# Altium schematic symbol library GOST_Paimin.SchLib: 50 symbols
Pins are listed as number, name and electrical type; pins without a type are passive.

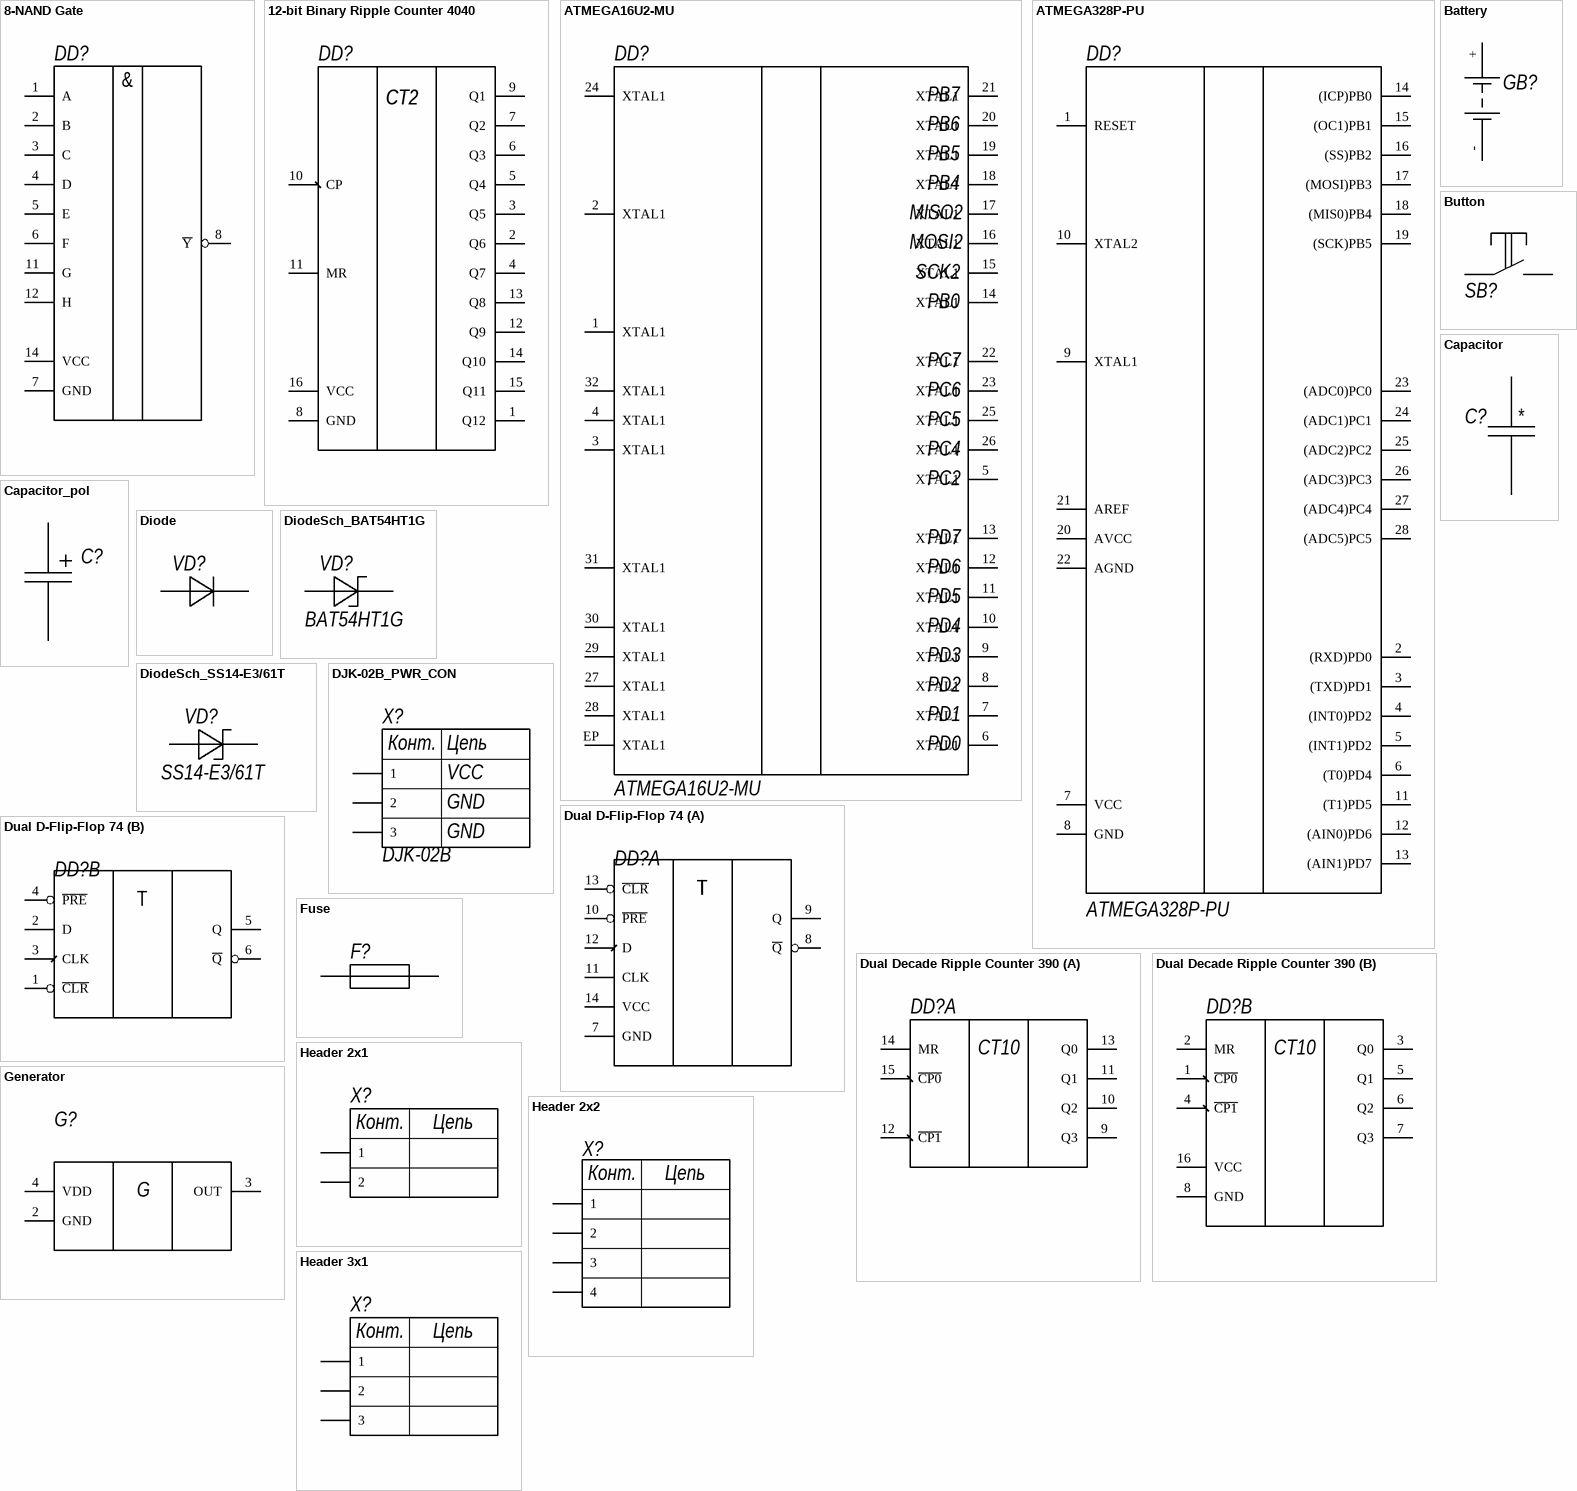
[diagram p0: symbols 8-NAND Gate to Header 3x1]

## 8-NAND Gate
designator DD?
Case: SOIC-14
footprint SOIC-14 (SOIC, 14-Leads, Body 8,65x3,90mm, Pitch 1,27mm, IPC Medium Density)
pins: 1 A, 2 B, 3 C, 4 D, 5 E, 6 F, 7 GND, 8 ~{Y}, 11 G, 12 H, 14 VCC
1 alternate drawing of the same symbol
text: &

## 12-bit Binary Ripple Counter 4040
designator DD?
ValueDescription: Микросхема; ValueType: Счётчик
footprint SOIC-16 (SOIC, 16-Leads, Body 8,65x3,90mm, Pitch 1,27mm, IPC Medium Density)
pins: 1 Q12, 2 Q6, 3 Q5, 4 Q7, 5 Q4, 6 Q3, 7 Q2, 8 GND, 9 Q1, 10 CP, 11 MR, 12 Q9, 13 Q8, 14 Q10, 15 Q11, 16 VCC
text: CT2

## ATMEGA16U2-MU
designator DD?
ValueManufacturer: ATMEGA; ValueType: Микроконтроллер; ValueDescription: Микросхема; ValueManufacturerPartNumber: ATMEGA16U2-MU; Case: QFN32_0.5_5x5mm
footprint QFN32_0.5_5x5mm
pins: 1 XTAL1, 2 XTAL1, 3 XTAL1, 4 XTAL1, 5 XTAL1, 6 XTAL1, 7 XTAL1, 8 XTAL1, 9 XTAL1, 10 XTAL1, 11 XTAL1, 12 XTAL1, 13 XTAL1, 14 XTAL1, 15 XTAL1, 16 XTAL1, 17 XTAL1, 18 XTAL1, 19 XTAL1, 20 XTAL1, 21 XTAL1, 22 XTAL1, 23 XTAL1, 24 XTAL1, 25 XTAL1, 26 XTAL1, 27 XTAL1, 28 XTAL1, 29 XTAL1, 30 XTAL1, 31 XTAL1, 32 XTAL1, EP XTAL1
text: PB7; PB6; PB5; PB4; MISO2; MOSI2; SCK2; PB0; PC7; PC6; PC5; PC4; PC2; PD7; PD6; PD5; PD4; PD3; PD2; PD1; PD0

## ATMEGA328P-PU
designator DD?
ValueManufacturer: ATMEGA; ValueType: Микроконтроллер; ValueDescription: Микросхема; Rule: PcbType=ProtelPcb; ValueManufacturerPartNumber: ATMEGA328P-PU; Case: DIP28
footprint DIP28_2.54
pins: 1 RESET, 2 (RXD)PD0, 3 (TXD)PD1, 4 (INT0)PD2, 5 (INT1)PD2, 6 (T0)PD4, 7 VCC, 8 GND, 9 XTAL1, 10 XTAL2, 11 (T1)PD5, 12 (AIN0)PD6, 13 (AIN1)PD7, 14 (ICP)PB0, 15 (OC1)PB1, 16 (SS)PB2, 17 (MOSI)PB3, 18 (MIS0)PB4, 19 (SCK)PB5, 20 AVCC, 21 AREF, 22 AGND, 23 (ADC0)PC0, 24 (ADC1)PC1, 25 (ADC2)PC2, 26 (ADC3)PC3, 27 (ADC4)PC4, 28 (ADC5)PC5

## Battery
designator GB?
pins: +, -

## Button
designator SB?, comment 2-1437565-7  (value not drawn)
ValueManufacturer: Te Connectivity; ValueType: Кнопка тактовая; ValueManufacturerPartNumber: 2-1437565-7
footprint TACT_Switch (Footprint not found)
footprint MP12
pins: 1, 2

## Capacitor
designator C?
ValueType: Конденсатор; Case: *; Power: *; Temp: *; Tolerance: *; URL: *; Value: *; ValueDescription: *; ValueManufacturer: *; ValueManufacturerPartNumber: *; Dielectric: *; Voltage: *; ESR: *
footprint 0603_CAP
footprint 1206_CAP
footprint 1210_CAP
pins: 1, 2
1 alternate drawing of the same symbol

## Capacitor_pol
designator C?
ValueType: Полярный конденсатор
footprint CAP_ELECTR_0607
footprint CAP_CASE_A (Танталовый, тип А)
footprint CAP_CASE_B (Molded Capacitor, 2-Leads, Body 3,60x2,90mm, IPC Medium Density)
footprint CAP_CASE_C
footprint CAP_CASE_D
pins: 1, 2
1 alternate drawing of the same symbol

## Diode
designator VD?
footprint D9E
footprint KD103A
pins: A, K
1 alternate drawing of the same symbol

## DiodeSch_BAT54HT1G
designator VD?, comment BAT54HT1G
ValueManufacturer: On Semiconductor; ValueManufacturerPartNumber: BAT54HT1G
footprint SOD-323
pins: A, K

## DiodeSch_SS14-E3/61T
designator VD?, comment SS14-E3/61T
ValueManufacturer: Vishay; ValueManufacturerPartNumber: SS14-E3/61T
footprint DO-214AC(SMA)
pins: A, K

## DJK-02B_PWR_CON
designator X?, comment DJK-02B
ValueManufacturer: KLS; ValueType: Разъем питания; URL: https://www.terraelectronica.ru/product/45722; ValueDescription: DJK-02B; ValueManufacturerPartNumber: DJK-02B
footprint DJK-02B
pins: 1, 2, 3
text: Конт.; Цепь; VCC; GND

## Dual D-Flip-Flop 74
designator DD?
ValueDescription: Микросхема; ValueType: Триггер
footprint SOIC-14 (SOIC, 14-Leads, Body 8,65x3,90mm, Pitch 1,27mm, IPC Medium Density)
part A pins: 7 GND, 8 ~{Q}, 9 Q, 10 ~{PRE}, 11 CLK, 12 D, 13 ~{CLR}, 14 VCC
part B pins: 1 ~{CLR}, 2 D, 3 CLK, 4 ~{PRE}, 5 Q, 6 ~{Q}
1 alternate drawing of the same symbol
part A text: T
part B text: T

## Dual Decade Ripple Counter 390
designator DD?
ValueDescription: Микросхема; ValueType: Счётчик
footprint SOIC-16 (SOIC, 16-Leads, Body 8,65x3,90mm, Pitch 1,27mm, IPC Medium Density)
part A pins: 9 Q3, 10 Q2, 11 Q1, 12 ~{CP1}, 13 Q0, 14 MR, 15 ~{CP0}
part B pins: 1 ~{CP0}, 2 MR, 3 Q0, 4 ~{CP1}, 5 Q1, 6 Q2, 7 Q3, 8 GND, 16 VCC
1 alternate drawing of the same symbol
part A text: CT10
part B text: CT10

## Fuse
designator F?
ValueType: Предохранитель; ValueDescription: Предохранитель
footprint MF-MSMF200
pins: 1, 2

## Generator
designator G?
ValueDescription: Микросхема; ValueType: Генератор
pins: 2 GND, 3 OUT, 4 VDD
1 alternate drawing of the same symbol
text: G

## Header 2x1
designator X?
ValueDescription: Разъем; ValueType: Разъем
pins: 1, 2
2 alternate drawings of the same symbol
text: Конт.; Цепь

## Header 2x2
designator X?
ValueType: Разъем штыревой
footprint MOLEX_0430450427
pins: 1, 2, 3, 4
text: Конт.; Цепь

## Header 3x1
designator X?
ValueDescription: Разъем; ValueType: Разъем; Str3: *
pins: 1, 2, 3
1 alternate drawing of the same symbol
text: Конт.; Цепь

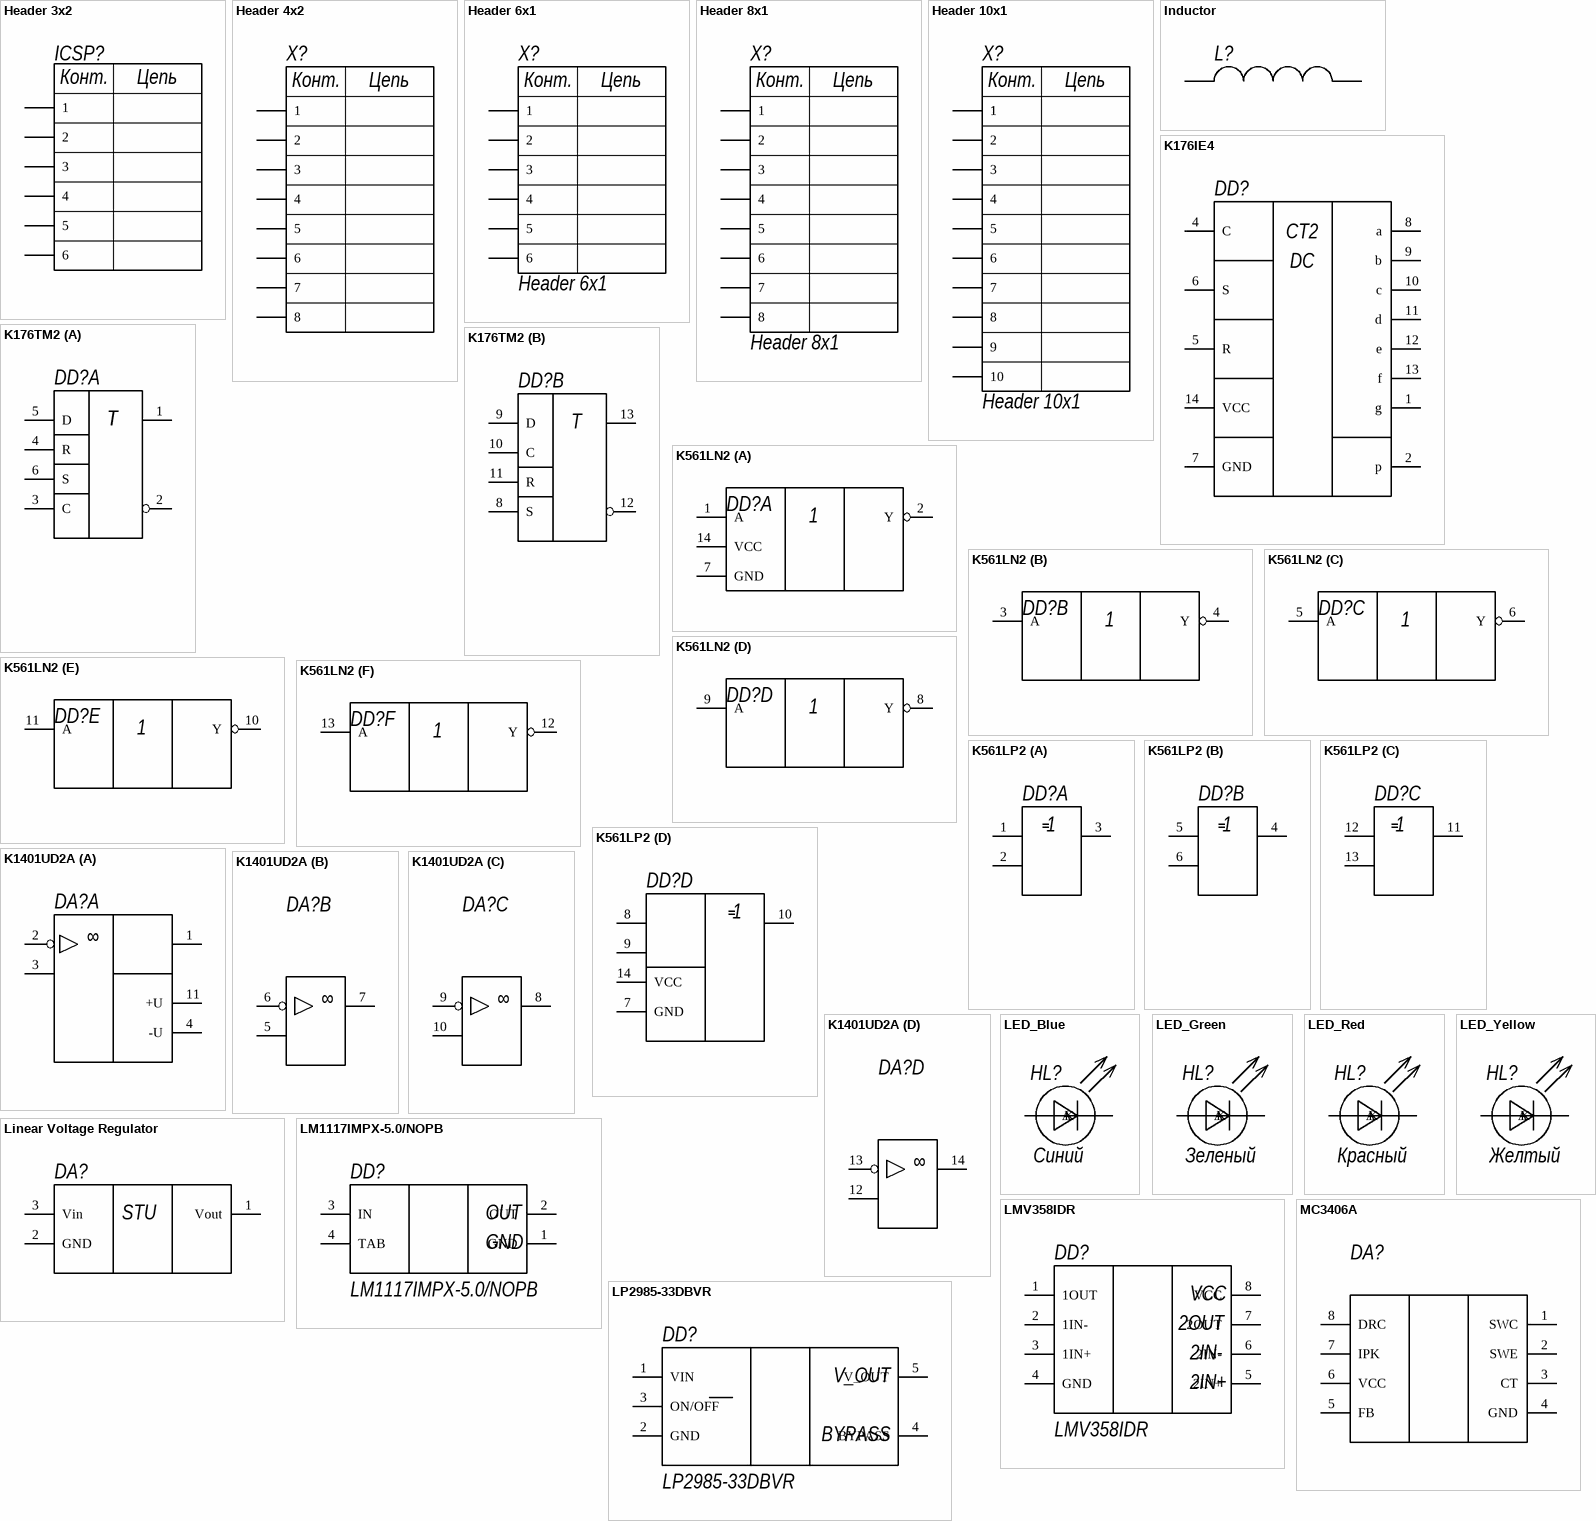
[diagram p1: symbols Header 3x2 to MC3406A]

## Header 3x2
designator ICSP?
ValueDescription: PLD-6; ValueType: Разъем штыревой 2,54 мм; Case: HDR2x3
footprint HDR2X3
pins: 1, 2, 3, 4, 5, 6
2 alternate drawings of the same symbol
text: Конт.; Цепь

## Header 4x2
designator X?
ValueType: Разъем; Case: PBS-8
footprint MOLEX_0430450827
pins: 1, 2, 3, 4, 5, 6, 7, 8
1 alternate drawing of the same symbol
text: Конт.; Цепь

## Header 6x1
designator X?
ValueType: Разъем; Case: PBS-6
footprint PBS-6
pins: 1, 2, 3, 4, 5, 6
1 alternate drawing of the same symbol
text: Конт.; Цепь

## Header 8x1
designator X?
ValueType: Разъем; Case: PBS-8
footprint PBS-8
pins: 1, 2, 3, 4, 5, 6, 7, 8
1 alternate drawing of the same symbol
text: Конт.; Цепь

## Header 10x1
designator X?
ValueType: Разъем; Case: PBS-10
footprint PBS-10
pins: 1, 1, 2, 3, 4, 5, 6, 7, 8, 9, 10
1 alternate drawing of the same symbol
text: Конт.; Цепь

## Inductor
designator L?
ValueType: Индуктивность
footprint 0603_IND
pins: 1, 2

## K176IE4
designator DD?
footprint 201.14-1
pins: 1 g, 2 p, 4 C, 5 R, 6 S, 7 GND, 8 a, 9 b, 10 c, 11 d, 12 e, 13 f, 14 VCC
1 alternate drawing of the same symbol
text: CT2; DC

## K176TM2
designator DD?
footprint 201.14-1
part A pins: 1 Q, 2 #Q, 3 C, 4 R, 5 D, 6 S
part B pins: 8 S, 9 D, 10 C, 11 R, 12 #Q, 13 Q
3 alternate drawings of the same symbol
part A text: T
part B text: T

## K561LN2
designator DD?
ValueDescription: Микросхема; ValueType: Инвертор
footprint SOIC-14 (SOIC, 14-Leads, Body 8,65x3,90mm, Pitch 1,27mm, IPC Medium Density)
footprint 4306.14-A
part A pins: 1 A, 2 Y, 7 GND, 14 VCC
part B pins: 3 A, 4 Y
part C pins: 5 A, 6 Y
part D pins: 8 Y, 9 A
part E pins: 10 Y, 11 A
part F pins: 12 Y, 13 A
2 alternate drawings of the same symbol

## K561LP2
designator DD?
footprint 201.14-1
part A pins: 1, 2, 3
part B pins: 4, 5, 6
part C pins: 11, 12, 13
part D pins: 7 GND, 8, 9, 10, 14 VCC
1 alternate drawing of the same symbol

## K1401UD2A
designator DA?
footprint 201.14-8
part A pins: 1, 2, 3, 4 -U, 11 +U
part B pins: 5, 6, 7
part C pins: 8, 9, 10
part D pins: 12, 13, 14
part A text: ∞
part B text: ∞
part C text: ∞
part D text: ∞

## LED_Blue
designator HL?, comment Синий
ValueManufacturer: Foryard; ValueManufacturerPartNumber: fyls-0603ubc; Temp: -40°C...+85°C; ValueDescription: Светодиод; Case: 0603; Value: Синий; ValueType: Светодиод
footprint 0603_LED_BLUE
pins: A, K

## LED_Green
designator HL?, comment Зеленый
ValueManufacturer: Foryard; ValueManufacturerPartNumber: fyls-0603ugc; Temp: -40°C...+85°C; ValueDescription: Светодиод; Case: 0603; Value: Зеленый; ValueType: Светодиод
footprint 0603_LED_GREEN
pins: A, K

## LED_Red
designator HL?, comment Красный
ValueManufacturer: Foryard; ValueManufacturerPartNumber: fyls-0603urc; Temp: -40°C...+85°C; ValueDescription: Светодиод; Case: 0603; Value: Красный; ValueType: Светодиод
footprint 0603_LED_RED
pins: A, K

## LED_Yellow
designator HL?, comment Желтый
ValueManufacturer: Foryard; ValueManufacturerPartNumber: fyls-0603uyc; Temp: -40°C...+85°C; ValueDescription: Светодиод; Case: 0603; Value: Желтый; ValueType: Светодиод
footprint 0603_LED_YELLOW
pins: A, K

## Linear Voltage Regulator
designator DA?
ValueDescription: Микросхема; ValueType: Линейный стабилизатор напряжения
pins: 1 Vout, 2 GND, 3 Vin
text: STU

## LM1117IMPX-5.0/NOPB
designator DD?
ValueManufacturer: Texas Instruments; ValueDescription: Микросхема; ValueType: Линейный стабилизатор напряжения; Case: SOT-223; ValueManufacturerPartNumber: LM1117IMPX-5.0
footprint SOT223-4
pins: 1 GND, 2 OUT, 3 IN, 4 TAB

## LMV358IDR
designator DD?
ValueManufacturer: Texas Instruments; ValueDescription: Микросхема; ValueType: Операционный усилитель; Case: SOIC-8; ValueManufacturerPartNumber: LMV358IDR
footprint SOIC-8
pins: 1 1OUT, 2 1IN-, 3 1IN+, 4 GND, 5 2IN+, 6 2IN-, 7 2OUT, 8 VCC

## LP2985-33DBVR
designator DD?
ValueManufacturer: Texas Instruments; ValueDescription: Микросхема; ValueType: Линейный стабилизатор напряжения; Case: SOT-23-5; ValueManufacturerPartNumber: LP2985-33DBVR
footprint SOT23-5
pins: 1 VIN, 2 GND, 3 ON/OFF, 4 BYPASS, 5 V_OUT

## MC3406A
designator DA?
ValueDescription: Микросхема; ValueType: Микросхема
footprint SOIC-8
pins: 1 SWC, 2 SWE, 3 CT, 4 GND, 5 FB, 6 VCC, 7 IPK, 8 DRC
1 alternate drawing of the same symbol

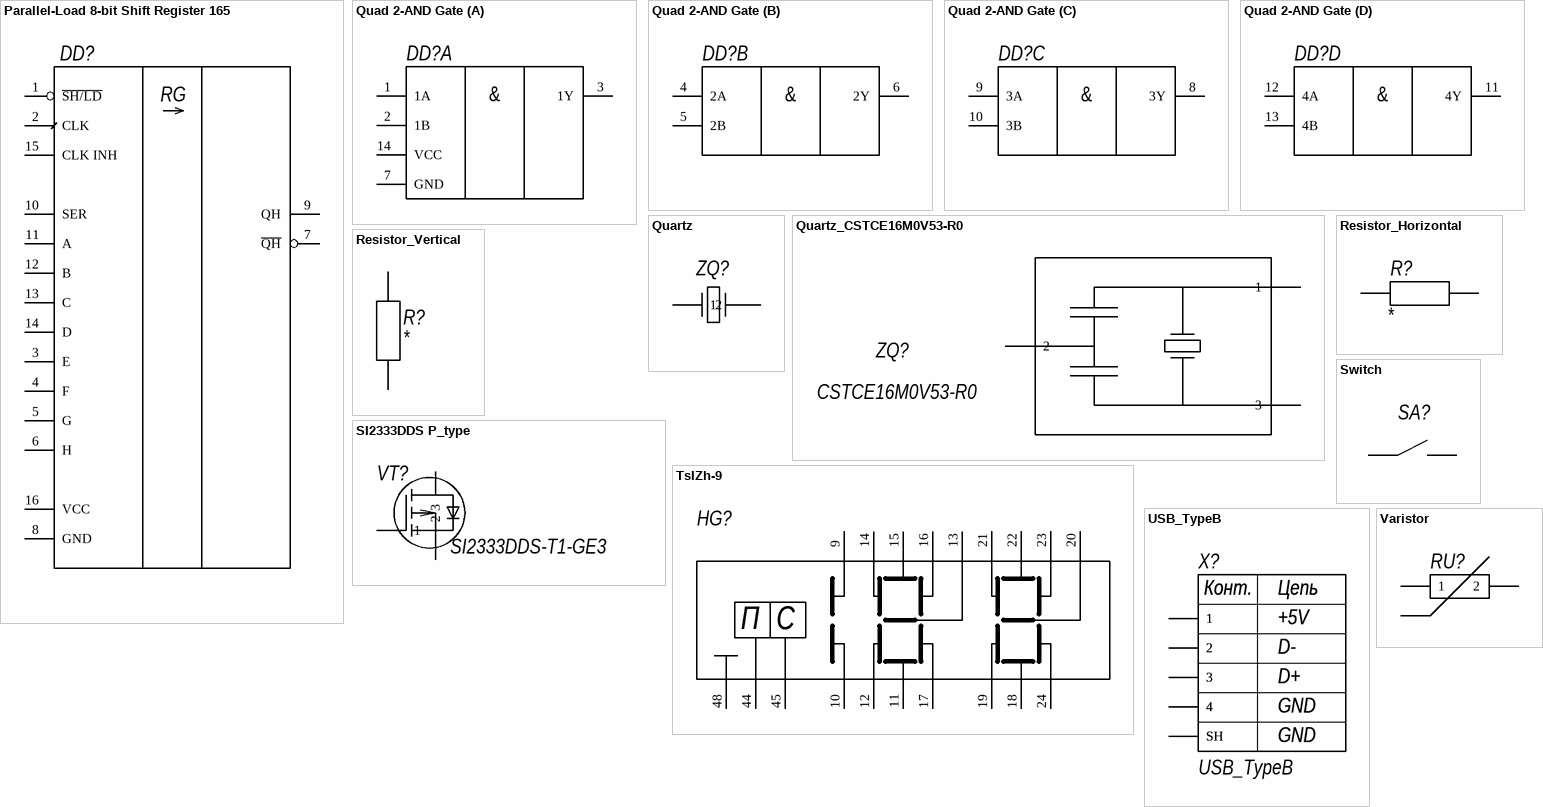
[diagram p2: symbols Parallel-Load 8-bit Shift Register 165 to Varistor]

## Parallel-Load 8-bit Shift Register 165
designator DD?
ValueDescription: Микросхема; ValueType: Сдвиговый регистр
footprint SOIC-16 (SOIC, 16-Leads, Body 8,65x3,90mm, Pitch 1,27mm, IPC Medium Density)
pins: 1 ~{SH/LD}, 2 CLK, 3 E, 4 F, 5 G, 6 H, 7 ~{QH}, 8 GND, 9 QH, 10 SER, 11 A, 12 B, 13 C, 14 D, 15 CLK INH, 16 VCC
text: RG

## Quad 2-AND Gate
designator DD?
ValueType: Микросхема; ValueDescription: Микросхема
footprint SOIC-14 (SOIC, 14-Leads, Body 8,65x3,90mm, Pitch 1,27mm, IPC Medium Density)
part A pins: 1 1A, 2 1B, 3 1Y, 7 GND, 14 VCC
part B pins: 4 2A, 5 2B, 6 2Y
part C pins: 8 3Y, 9 3A, 10 3B
part D pins: 11 4Y, 12 4A, 13 4B
part A text: &
part B text: &
part C text: &
part D text: &

## Quartz
designator ZQ?
ValueType: Кварцевый резонатор
footprint HC-49S
pins: 1, 2

## Quartz_CSTCE16M0V53-R0
designator ZQ?, comment CSTCE16M0V53-R0
ValueManufacturer: Murata; Temp: -40°C...+85°C; Tolerance: 0.5%; ValueType: Керамический резонатор; Value: 16 МГц; Case: HC-49S; ValueManufacturerPartNumber: CSTCE16M0V53-R0
footprint CSTCE16M0V53-R0
pins: 1, 2, 3

## Resistor_Horizontal
designator R?
ValueType: Резистор; Value: *; Case: *; URL: *; Temp: *; Tolerance: *
footprint 0603_RES
footprint 0805_RES (Р1-8 (Эркон))
pins: 1, 2

## Resistor_Vertical
designator R?
ValueType: Резистор; Value: *; Case: *; URL: *; Temp: *; Tolerance: *
footprint 0603_RES
footprint 0805_RES (Р1-8 (Эркон))
pins: 1, 2

## SI2333DDS P_type
designator VT?, comment SI2333DDS-T1-GE3
ValueManufacturer: Vishay; ValueType: MOSFET; Case: SOT-23; ValueManufacturerPartNumber: SI2333DDS-T1-GE3
footprint SOT-23
pins: 1, 2, 3

## Switch
designator SA?
footprint MT1
pins: 1, 2

## TsIZh-9
designator HG?
footprint TsIZh-9 (ЦИЖ-9)
pins: 9, 10, 11, 12, 13, 14, 15, 16, 17, 18 11, 19, 20, 21, 22, 23, 24, 44, 45, 48
text: П; С

## USB_TypeB
designator X?
ValueManufacturer: Te Connectivity; ValueManufacturerPartNumber: 292304-1; ValueType: USB разъём тип B
footprint USB_TypeB
pins: 0 SH, 0 SH, 1, 1, 2, 2, 3, 3, 4, 4
text: Конт.; Цепь; +5V; D-; D+; GND

## Varistor
designator RU?
ValueType: Варистор
footprint 0603_VAR
pins: 1, 2